# Altium schematic symbol library WE-DD.SchLib: 73 symbols (part 1 of 2)
Pins are listed as number, name and electrical type; pins without a type are passive.

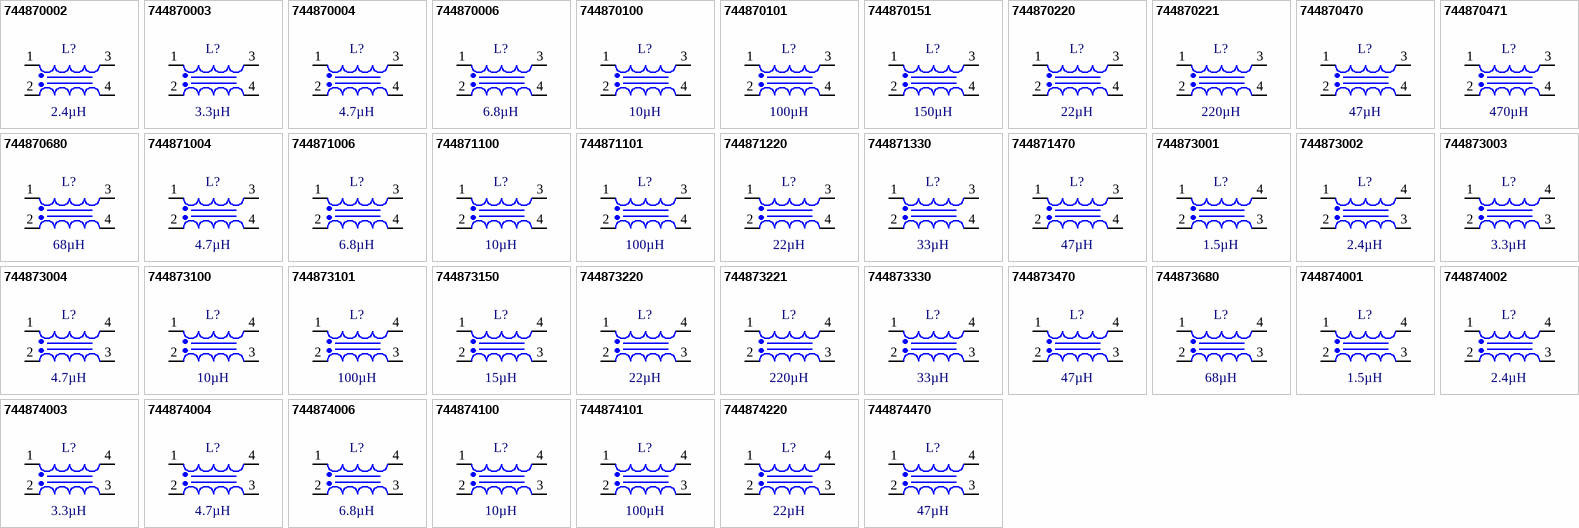
[diagram p0: symbols 744870002 to 744874470]

## 744870002
designator L?, comment 2.4µH
WE-DD SMT Shielded Coupled Inductor, size 1280, 1:1, 2.4µH, 7.8A, 18mΩ; Manufacturer Part Number: 744870002; Manufacturer: Wurth Elektronik; Case/Size Code: 1280; DC Resistance 1: 14mΩ; Rated Voltage: 80V; Saturation Current: 15A; Self Resonant Frequency: 40MHz; Type: Crossed; Category: Power Inductors; Match Code: WE-DD; ComponentLink1Description: Website Link; ComponentLink1URL: https://www.we-online.com/redexpert/article/744870002?ad; ComponentLink2Description: Datasheet Link; ComponentLink2URL: https://www.we-online.com/redexpert/spec/744870002?ad; Mount: Surface Mount; Min Operating Temperature: -40°C; Max Operating Temperature: 125°C; Packaging: Tape and Reel; Length: 12.5mm; Width: 12.5mm; Height: 8.5mm; DC Resistance 2: 14mΩ; DC Resistance Max 1: 18mΩ; DC Resistance Max 2: 18mΩ; Inductance 1: 2.4µH; Inductance 2: 2.4µH; Rated Current 1: 7.8A; Rated Current 2: 7.8A; Turns Ratio: 1:1
footprint WE-DD_1280
simulation model 1280_744870002_2.4u
pins: 1, 2, 3, 4

## 744870003
designator L?, comment 3.3µH
WE-DD SMT Shielded Coupled Inductor, size 1280, 1:1, 3.3µH, 7.1A, 21mΩ; Manufacturer Part Number: 744870003; Manufacturer: Wurth Elektronik; Case/Size Code: 1280; DC Resistance 1: 16mΩ; Rated Voltage: 80V; Saturation Current: 12A; Self Resonant Frequency: 30MHz; Type: Crossed; Category: Power Inductors; Match Code: WE-DD; ComponentLink1Description: Website Link; ComponentLink1URL: https://www.we-online.com/redexpert/article/744870003?ad; ComponentLink2Description: Datasheet Link; ComponentLink2URL: https://www.we-online.com/redexpert/spec/744870003?ad; Mount: Surface Mount; Min Operating Temperature: -40°C; Max Operating Temperature: 125°C; Packaging: Tape and Reel; Length: 12.5mm; Width: 12.5mm; Height: 8.5mm; DC Resistance 2: 16mΩ; DC Resistance Max 1: 21mΩ; DC Resistance Max 2: 21mΩ; Inductance 1: 3.3µH; Inductance 2: 3.3µH; Rated Current 1: 7.1A; Rated Current 2: 7.1A; Turns Ratio: 1:1
footprint WE-DD_1280
simulation model 1280_744870003_3.3u
pins: 1, 2, 3, 4

## 744870004
designator L?, comment 4.7µH
WE-DD SMT Shielded Coupled Inductor, size 1280, 1:1, 4.7µH, 3.6A, 30mΩ; Manufacturer Part Number: 744870004; Manufacturer: Wurth Elektronik; Case/Size Code: 1280; DC Resistance 1: 25mΩ; Rated Voltage: 80V; Saturation Current: 10A; Self Resonant Frequency: 34MHz; Type: Crossed; Category: Power Inductors; Match Code: WE-DD; ComponentLink1Description: Website Link; ComponentLink1URL: https://www.we-online.com/redexpert/article/744870004?ad; ComponentLink2Description: Datasheet Link; ComponentLink2URL: https://www.we-online.com/redexpert/spec/744870004?ad; Mount: Surface Mount; Min Operating Temperature: -40°C; Max Operating Temperature: 125°C; Packaging: Tape and Reel; Length: 12.5mm; Width: 12.5mm; Height: 8.5mm; DC Resistance 2: 25mΩ; DC Resistance Max 1: 30mΩ; DC Resistance Max 2: 30mΩ; Inductance 1: 4.7µH; Inductance 2: 4.7µH; Rated Current 1: 3.6A; Rated Current 2: 3.6A; Turns Ratio: 1:1
footprint WE-DD_1280
simulation model 1280_744870004_4.7u
pins: 1, 2, 3, 4

## 744870006
designator L?, comment 6.8µH
WE-DD SMT Shielded Coupled Inductor, size 1280, 1:1, 6.8µH, 3.2A, 35mΩ; Manufacturer Part Number: 744870006; Manufacturer: Wurth Elektronik; Case/Size Code: 1280; DC Resistance 1: 27mΩ; Rated Voltage: 80V; Saturation Current: 8A; Self Resonant Frequency: 18MHz; Type: Crossed; Category: Power Inductors; Match Code: WE-DD; ComponentLink1Description: Website Link; ComponentLink1URL: https://www.we-online.com/redexpert/article/744870006?ad; ComponentLink2Description: Datasheet Link; ComponentLink2URL: https://www.we-online.com/redexpert/spec/744870006?ad; Mount: Surface Mount; Min Operating Temperature: -40°C; Max Operating Temperature: 125°C; Packaging: Tape and Reel; Length: 12.5mm; Width: 12.5mm; Height: 8.5mm; DC Resistance 2: 27mΩ; DC Resistance Max 1: 35mΩ; DC Resistance Max 2: 35mΩ; Inductance 1: 6.8µH; Inductance 2: 6.8µH; Rated Current 1: 3.2A; Rated Current 2: 3.2A; Turns Ratio: 1:1
footprint WE-DD_1280
simulation model 1280_744870006_6.8u
pins: 1, 2, 3, 4

## 744870100
designator L?, comment 10µH
WE-DD SMT Shielded Coupled Inductor, size 1280, 1:1, 10µH, 2.7A, 44mΩ; Manufacturer Part Number: 744870100; Manufacturer: Wurth Elektronik; Case/Size Code: 1280; DC Resistance 1: 38mΩ; Rated Voltage: 80V; Saturation Current: 7A; Self Resonant Frequency: 18MHz; Type: Crossed; Category: Power Inductors; Match Code: WE-DD; ComponentLink1Description: Website Link; ComponentLink1URL: https://www.we-online.com/redexpert/article/744870100?ad; ComponentLink2Description: Datasheet Link; ComponentLink2URL: https://www.we-online.com/redexpert/spec/744870100?ad; Mount: Surface Mount; Min Operating Temperature: -40°C; Max Operating Temperature: 125°C; Packaging: Tape and Reel; Length: 12.5mm; Width: 12.5mm; Height: 8.5mm; DC Resistance 2: 38mΩ; DC Resistance Max 1: 44mΩ; DC Resistance Max 2: 44mΩ; Inductance 1: 10µH; Inductance 2: 10µH; Rated Current 1: 2.7A; Rated Current 2: 2.7A; Turns Ratio: 1:1
footprint WE-DD_1280
simulation model 1280_744870100_10u
pins: 1, 2, 3, 4

## 744870101
designator L?, comment 100µH
WE-DD SMT Shielded Coupled Inductor, size 1280, 1:1, 100µH, 1.4A, 300mΩ; Manufacturer Part Number: 744870101; Manufacturer: Wurth Elektronik; Case/Size Code: 1280; DC Resistance 1: 230mΩ; Rated Voltage: 80V; Saturation Current: 2A; Self Resonant Frequency: 4MHz; Type: Crossed; Category: Power Inductors; Match Code: WE-DD; ComponentLink1Description: Website Link; ComponentLink1URL: https://www.we-online.com/redexpert/article/744870101?ad; ComponentLink2Description: Datasheet Link; ComponentLink2URL: https://www.we-online.com/redexpert/spec/744870101?ad; Mount: Surface Mount; Min Operating Temperature: -40°C; Max Operating Temperature: 125°C; Packaging: Tape and Reel; Length: 12.5mm; Width: 12.5mm; Height: 8.5mm; DC Resistance 2: 230mΩ; DC Resistance Max 1: 300mΩ; DC Resistance Max 2: 300mΩ; Inductance 1: 100µH; Inductance 2: 100µH; Rated Current 1: 1.4A; Rated Current 2: 1.4A; Turns Ratio: 1:1
footprint WE-DD_1280
simulation model 1280_744870101_100u
pins: 1, 2, 3, 4

## 744870151
designator L?, comment 150µH
WE-DD SMT Shielded Coupled Inductor, size 1280, 1:1, 150µH, 1A, 400mΩ; Manufacturer Part Number: 744870151; Manufacturer: Wurth Elektronik; Case/Size Code: 1280; DC Resistance 1: 340mΩ; Rated Voltage: 80V; Saturation Current: 1.7A; Self Resonant Frequency: 2.3MHz; Type: Crossed; Category: Power Inductors; Match Code: WE-DD; ComponentLink1Description: Website Link; ComponentLink1URL: https://www.we-online.com/redexpert/article/744870151?ad; ComponentLink2Description: Datasheet Link; ComponentLink2URL: https://www.we-online.com/redexpert/spec/744870151?ad; Mount: Surface Mount; Min Operating Temperature: -40°C; Max Operating Temperature: 125°C; Packaging: Tape and Reel; Length: 12.5mm; Width: 12.5mm; Height: 8.5mm; DC Resistance 2: 340mΩ; DC Resistance Max 1: 400mΩ; DC Resistance Max 2: 400mΩ; Inductance 1: 150µH; Inductance 2: 150µH; Rated Current 1: 1A; Rated Current 2: 1A; Turns Ratio: 1:1
footprint WE-DD_1280
simulation model 1280_744870151_150u
pins: 1, 2, 3, 4

## 744870220
designator L?, comment 22µH
WE-DD SMT Shielded Coupled Inductor, size 1280, 1:1, 22µH, 2.45A, 80mΩ; Manufacturer Part Number: 744870220; Manufacturer: Wurth Elektronik; Case/Size Code: 1280; DC Resistance 1: 62mΩ; Rated Voltage: 80V; Saturation Current: 5.2A; Self Resonant Frequency: 10MHz; Type: Crossed; Category: Power Inductors; Match Code: WE-DD; ComponentLink1Description: Website Link; ComponentLink1URL: https://www.we-online.com/redexpert/article/744870220?ad; ComponentLink2Description: Datasheet Link; ComponentLink2URL: https://www.we-online.com/redexpert/spec/744870220?ad; Mount: Surface Mount; Min Operating Temperature: -40°C; Max Operating Temperature: 125°C; Packaging: Tape and Reel; Length: 12.5mm; Width: 12.5mm; Height: 8.5mm; DC Resistance 2: 62mΩ; DC Resistance Max 1: 80mΩ; DC Resistance Max 2: 80mΩ; Inductance 1: 22µH; Inductance 2: 22µH; Rated Current 1: 2.45A; Rated Current 2: 2.45A; Turns Ratio: 1:1
footprint WE-DD_1280
simulation model 1280_744870220_22u
pins: 1, 2, 3, 4

## 744870221
designator L?, comment 220µH
WE-DD SMT Shielded Coupled Inductor, size 1280, 1:1, 220µH, 0.9A, 650mΩ; Manufacturer Part Number: 744870221; Manufacturer: Wurth Elektronik; Case/Size Code: 1280; DC Resistance 1: 530mΩ; Rated Voltage: 80V; Saturation Current: 1.4A; Self Resonant Frequency: 2MHz; Type: Crossed; Category: Power Inductors; Match Code: WE-DD; ComponentLink1Description: Website Link; ComponentLink1URL: https://www.we-online.com/redexpert/article/744870221?ad; ComponentLink2Description: Datasheet Link; ComponentLink2URL: https://www.we-online.com/redexpert/spec/744870221?ad; Mount: Surface Mount; Min Operating Temperature: -40°C; Max Operating Temperature: 125°C; Packaging: Tape and Reel; Length: 12.5mm; Width: 12.5mm; Height: 8.5mm; DC Resistance 2: 530mΩ; DC Resistance Max 1: 650mΩ; DC Resistance Max 2: 650mΩ; Inductance 1: 220µH; Inductance 2: 220µH; Rated Current 1: 0.9A; Rated Current 2: 0.9A; Turns Ratio: 1:1
footprint WE-DD_1280
simulation model 1280_744870221_220u
pins: 1, 2, 3, 4

## 744870470
designator L?, comment 47µH
WE-DD SMT Shielded Coupled Inductor, size 1280, 1:1, 47µH, 1.45A, 150mΩ; Manufacturer Part Number: 744870470; Manufacturer: Wurth Elektronik; Case/Size Code: 1280; DC Resistance 1: 125mΩ; Rated Voltage: 80V; Saturation Current: 3.1A; Self Resonant Frequency: 5MHz; Type: Crossed; Category: Power Inductors; Match Code: WE-DD; ComponentLink1Description: Website Link; ComponentLink1URL: https://www.we-online.com/redexpert/article/744870470?ad; ComponentLink2Description: Datasheet Link; ComponentLink2URL: https://www.we-online.com/redexpert/spec/744870470?ad; Mount: Surface Mount; Min Operating Temperature: -40°C; Max Operating Temperature: 125°C; Packaging: Tape and Reel; Length: 12.5mm; Width: 12.5mm; Height: 8.5mm; DC Resistance 2: 125mΩ; DC Resistance Max 1: 150mΩ; DC Resistance Max 2: 150mΩ; Inductance 1: 47µH; Inductance 2: 47µH; Rated Current 1: 1.45A; Rated Current 2: 1.45A; Turns Ratio: 1:1
footprint WE-DD_1280
simulation model 1280_744870470_47u
pins: 1, 2, 3, 4

## 744870471
designator L?, comment 470µH
WE-DD SMT Shielded Coupled Inductor, size 1280, 1:1, 470µH, 0.7A, 1200mΩ; Manufacturer Part Number: 744870471; Manufacturer: Wurth Elektronik; Case/Size Code: 1280; DC Resistance 1: 1000mΩ; Rated Voltage: 80V; Saturation Current: 0.9A; Self Resonant Frequency: 0.65MHz; Type: Crossed; Category: Power Inductors; Match Code: WE-DD; ComponentLink1Description: Website Link; ComponentLink1URL: https://www.we-online.com/redexpert/article/744870471?ad; ComponentLink2Description: Datasheet Link; ComponentLink2URL: https://www.we-online.com/redexpert/spec/744870471?ad; Mount: Surface Mount; Min Operating Temperature: -40°C; Max Operating Temperature: 125°C; Packaging: Tape and Reel; Length: 12.5mm; Width: 12.5mm; Height: 8.5mm; DC Resistance 2: 1000mΩ; DC Resistance Max 1: 1200mΩ; DC Resistance Max 2: 1200mΩ; Inductance 1: 470µH; Inductance 2: 470µH; Rated Current 1: 0.7A; Rated Current 2: 0.7A; Turns Ratio: 1:1
footprint WE-DD_1280
simulation model 1280_744870471_470u
pins: 1, 2, 3, 4

## 744870680
designator L?, comment 68µH
WE-DD SMT Shielded Coupled Inductor, size 1280, 1:1, 68µH, 1.35A, 215mΩ; Manufacturer Part Number: 744870680; Manufacturer: Wurth Elektronik; Case/Size Code: 1280; DC Resistance 1: 170mΩ; Rated Voltage: 80V; Saturation Current: 3A; Self Resonant Frequency: 3.7MHz; Type: Crossed; Category: Power Inductors; Match Code: WE-DD; ComponentLink1Description: Website Link; ComponentLink1URL: https://www.we-online.com/redexpert/article/744870680?ad; ComponentLink2Description: Datasheet Link; ComponentLink2URL: https://www.we-online.com/redexpert/spec/744870680?ad; Mount: Surface Mount; Min Operating Temperature: -40°C; Max Operating Temperature: 125°C; Packaging: Tape and Reel; Length: 12.5mm; Width: 12.5mm; Height: 8.5mm; DC Resistance 2: 170mΩ; DC Resistance Max 1: 215mΩ; DC Resistance Max 2: 215mΩ; Inductance 1: 68µH; Inductance 2: 68µH; Rated Current 1: 1.35A; Rated Current 2: 1.35A; Turns Ratio: 1:1
footprint WE-DD_1280
simulation model 1280_744870680_68u
pins: 1, 2, 3, 4

## 744871004
designator L?, comment 4.7µH
WE-DD SMT Shielded Coupled Inductor, size 1260, 1:1, 4.7µH, 3A, 28mΩ; Manufacturer Part Number: 744871004; Manufacturer: Wurth Elektronik; Case/Size Code: 1260; DC Resistance 1: 23mΩ; Rated Voltage: 80V; Saturation Current: 8A; Self Resonant Frequency: 20MHz; Type: Crossed; Category: Power Inductors; Match Code: WE-DD; ComponentLink1Description: Website Link; ComponentLink1URL: https://www.we-online.com/redexpert/article/744871004?ad; ComponentLink2Description: Datasheet Link; ComponentLink2URL: https://www.we-online.com/redexpert/spec/744871004?ad; Mount: Surface Mount; Min Operating Temperature: -40°C; Max Operating Temperature: 125°C; Packaging: Tape and Reel; Length: 12.5mm; Width: 12.5mm; Height: 6.5mm; DC Resistance 2: 23mΩ; DC Resistance Max 1: 28mΩ; DC Resistance Max 2: 28mΩ; Inductance 1: 4.7µH; Inductance 2: 4.7µH; Rated Current 1: 3A; Rated Current 2: 3A; Turns Ratio: 1:1
footprint WE-DD_1260
simulation model 1260_744871004_4.7u
pins: 1, 2, 3, 4

## 744871006
designator L?, comment 6.8µH
WE-DD SMT Shielded Coupled Inductor, size 1260, 1:1, 6.8µH, 2.8A, 40mΩ; Manufacturer Part Number: 744871006; Manufacturer: Wurth Elektronik; Case/Size Code: 1260; DC Resistance 1: 35mΩ; Rated Voltage: 80V; Saturation Current: 6.5A; Self Resonant Frequency: 20MHz; Type: Crossed; Category: Power Inductors; Match Code: WE-DD; ComponentLink1Description: Website Link; ComponentLink1URL: https://www.we-online.com/redexpert/article/744871006?ad; ComponentLink2Description: Datasheet Link; ComponentLink2URL: https://www.we-online.com/redexpert/spec/744871006?ad; Mount: Surface Mount; Min Operating Temperature: -40°C; Max Operating Temperature: 125°C; Packaging: Tape and Reel; Length: 12.5mm; Width: 12.5mm; Height: 6.5mm; DC Resistance 2: 35mΩ; DC Resistance Max 1: 40mΩ; DC Resistance Max 2: 40mΩ; Inductance 1: 6.8µH; Inductance 2: 6.8µH; Rated Current 1: 2.8A; Rated Current 2: 2.8A; Turns Ratio: 1:1
footprint WE-DD_1260
simulation model 1260_744871006_6.8u
pins: 1, 2, 3, 4

## 744871100
designator L?, comment 10µH
WE-DD SMT Shielded Coupled Inductor, size 1260, 1:1, 10µH, 2A, 50mΩ; Manufacturer Part Number: 744871100; Manufacturer: Wurth Elektronik; Case/Size Code: 1260; DC Resistance 1: 44mΩ; Rated Voltage: 80V; Saturation Current: 5A; Self Resonant Frequency: 20MHz; Type: Crossed; Category: Power Inductors; Match Code: WE-DD; ComponentLink1Description: Website Link; ComponentLink1URL: https://www.we-online.com/redexpert/article/744871100?ad; ComponentLink2Description: Datasheet Link; ComponentLink2URL: https://www.we-online.com/redexpert/spec/744871100?ad; Mount: Surface Mount; Min Operating Temperature: -40°C; Max Operating Temperature: 125°C; Packaging: Tape and Reel; Length: 12.5mm; Width: 12.5mm; Height: 6.5mm; DC Resistance 2: 44mΩ; DC Resistance Max 1: 50mΩ; DC Resistance Max 2: 50mΩ; Inductance 1: 10µH; Inductance 2: 10µH; Rated Current 1: 2A; Rated Current 2: 2A; Turns Ratio: 1:1
footprint WE-DD_1260
simulation model 1260_744871100_10u
pins: 1, 2, 3, 4

## 744871101
designator L?, comment 100µH
WE-DD SMT Shielded Coupled Inductor, size 1260, 1:1, 100µH, 1.5A, 360mΩ; Manufacturer Part Number: 744871101; Manufacturer: Wurth Elektronik; Case/Size Code: 1260; DC Resistance 1: 293mΩ; Rated Voltage: 80V; Saturation Current: 1.8A; Self Resonant Frequency: 4MHz; Type: Crossed; Category: Power Inductors; Match Code: WE-DD; ComponentLink1Description: Website Link; ComponentLink1URL: https://www.we-online.com/redexpert/article/744871101?ad; ComponentLink2Description: Datasheet Link; ComponentLink2URL: https://www.we-online.com/redexpert/spec/744871101?ad; Mount: Surface Mount; Min Operating Temperature: -40°C; Max Operating Temperature: 125°C; Packaging: Tape and Reel; Length: 12.5mm; Width: 12.5mm; Height: 6.5mm; DC Resistance 2: 293mΩ; DC Resistance Max 1: 360mΩ; DC Resistance Max 2: 360mΩ; Inductance 1: 100µH; Inductance 2: 100µH; Rated Current 1: 1.5A; Rated Current 2: 1.5A; Turns Ratio: 1:1
footprint WE-DD_1260
simulation model 1260_744871101_100u
pins: 1, 2, 3, 4

## 744871220
designator L?, comment 22µH
WE-DD SMT Shielded Coupled Inductor, size 1260, 1:1, 22µH, 1.85A, 90mΩ; Manufacturer Part Number: 744871220; Manufacturer: Wurth Elektronik; Case/Size Code: 1260; DC Resistance 1: 67mΩ; Rated Voltage: 80V; Saturation Current: 3A; Self Resonant Frequency: 14MHz; Type: Crossed; Category: Power Inductors; Match Code: WE-DD; ComponentLink1Description: Website Link; ComponentLink1URL: https://www.we-online.com/redexpert/article/744871220?ad; ComponentLink2Description: Datasheet Link; ComponentLink2URL: https://www.we-online.com/redexpert/spec/744871220?ad; Mount: Surface Mount; Min Operating Temperature: -40°C; Max Operating Temperature: 125°C; Packaging: Tape and Reel; Length: 12.5mm; Width: 12.5mm; Height: 6.5mm; DC Resistance 2: 67mΩ; DC Resistance Max 1: 90mΩ; DC Resistance Max 2: 90mΩ; Inductance 1: 22µH; Inductance 2: 22µH; Rated Current 1: 1.85A; Rated Current 2: 1.85A; Turns Ratio: 1:1
footprint WE-DD_1260
simulation model 1260_744871220_22u
pins: 1, 2, 3, 4

## 744871330
designator L?, comment 33µH
WE-DD SMT Shielded Coupled Inductor, size 1260, 1:1, 33µH, 1.2A, 170mΩ; Manufacturer Part Number: 744871330; Manufacturer: Wurth Elektronik; Case/Size Code: 1260; DC Resistance 1: 125mΩ; Rated Voltage: 80V; Saturation Current: 2.8A; Self Resonant Frequency: 6MHz; Type: Crossed; Category: Power Inductors; Match Code: WE-DD; ComponentLink1Description: Website Link; ComponentLink1URL: https://www.we-online.com/redexpert/article/744871330?ad; ComponentLink2Description: Datasheet Link; ComponentLink2URL: https://www.we-online.com/redexpert/spec/744871330?ad; Mount: Surface Mount; Min Operating Temperature: -40°C; Max Operating Temperature: 125°C; Packaging: Tape and Reel; Length: 12.5mm; Width: 12.5mm; Height: 6.5mm; DC Resistance 2: 125mΩ; DC Resistance Max 1: 170mΩ; DC Resistance Max 2: 170mΩ; Inductance 1: 33µH; Inductance 2: 33µH; Rated Current 1: 1.2A; Rated Current 2: 1.2A; Turns Ratio: 1:1
footprint WE-DD_1260
simulation model 1260_744871330_33u
pins: 1, 2, 3, 4

## 744871470
designator L?, comment 47µH
WE-DD SMT Shielded Coupled Inductor, size 1260, 1:1, 47µH, 1.1A, 180mΩ; Manufacturer Part Number: 744871470; Manufacturer: Wurth Elektronik; Case/Size Code: 1260; DC Resistance 1: 145mΩ; Rated Voltage: 80V; Saturation Current: 2.4A; Self Resonant Frequency: 5MHz; Type: Crossed; Category: Power Inductors; Match Code: WE-DD; ComponentLink1Description: Website Link; ComponentLink1URL: https://www.we-online.com/redexpert/article/744871470?ad; ComponentLink2Description: Datasheet Link; ComponentLink2URL: https://www.we-online.com/redexpert/spec/744871470?ad; Mount: Surface Mount; Min Operating Temperature: -40°C; Max Operating Temperature: 125°C; Packaging: Tape and Reel; Length: 12.5mm; Width: 12.5mm; Height: 6.5mm; DC Resistance 2: 145mΩ; DC Resistance Max 1: 180mΩ; DC Resistance Max 2: 180mΩ; Inductance 1: 47µH; Inductance 2: 47µH; Rated Current 1: 1.1A; Rated Current 2: 1.1A; Turns Ratio: 1:1
footprint WE-DD_1260
simulation model 1260_744871470_47u
pins: 1, 2, 3, 4

## 744873001
designator L?, comment 1.5µH
WE-DD SMT Shielded Coupled Inductor, size 1280, 1:1, 1.5µH, 6.25A, 15mΩ; Manufacturer Part Number: 744873001; Manufacturer: Wurth Elektronik; Case/Size Code: 1280; DC Resistance 1: 11mΩ; Rated Voltage: 80V; Saturation Current: 18A; Self Resonant Frequency: 75MHz; Type: Straight; Category: Power Inductors; Match Code: WE-DD; ComponentLink1Description: Website Link; ComponentLink1URL: https://www.we-online.com/redexpert/article/744873001?ad; ComponentLink2Description: Datasheet Link; ComponentLink2URL: https://www.we-online.com/redexpert/spec/744873001?ad; Mount: Surface Mount; Min Operating Temperature: -40°C; Max Operating Temperature: 125°C; Packaging: Tape and Reel; Length: 12.5mm; Width: 12.5mm; Height: 8.5mm; DC Resistance 2: 11mΩ; DC Resistance Max 1: 15mΩ; DC Resistance Max 2: 15mΩ; Inductance 1: 1.5µH; Inductance 2: 1.5µH; Rated Current 1: 6.25A; Rated Current 2: 6.25A; Turns Ratio: 1:1
footprint WE-DD_1280
simulation model 1280_744873001_1.5u
pins: 1, 2, 3, 4

## 744873002
designator L?, comment 2.4µH
WE-DD SMT Shielded Coupled Inductor, size 1280, 1:1, 2.4µH, 6A, 16mΩ; Manufacturer Part Number: 744873002; Manufacturer: Wurth Elektronik; Case/Size Code: 1280; DC Resistance 1: 12mΩ; Rated Voltage: 80V; Saturation Current: 14A; Self Resonant Frequency: 54MHz; Type: Straight; Category: Power Inductors; Match Code: WE-DD; ComponentLink1Description: Website Link; ComponentLink1URL: https://www.we-online.com/redexpert/article/744873002?ad; ComponentLink2Description: Datasheet Link; ComponentLink2URL: https://www.we-online.com/redexpert/spec/744873002?ad; Mount: Surface Mount; Min Operating Temperature: -40°C; Max Operating Temperature: 125°C; Packaging: Tape and Reel; Length: 12.5mm; Width: 12.5mm; Height: 8.5mm; DC Resistance 2: 12mΩ; DC Resistance Max 1: 16mΩ; DC Resistance Max 2: 16mΩ; Inductance 1: 2.4µH; Inductance 2: 2.4µH; Rated Current 1: 6A; Rated Current 2: 6A; Turns Ratio: 1:1
footprint WE-DD_1280
simulation model 1280_744873002_2.4u
pins: 1, 2, 3, 4

## 744873003
designator L?, comment 3.3µH
WE-DD SMT Shielded Coupled Inductor, size 1280, 1:1, 3.3µH, 5.14A, 22mΩ; Manufacturer Part Number: 744873003; Manufacturer: Wurth Elektronik; Case/Size Code: 1280; DC Resistance 1: 17mΩ; Rated Voltage: 80V; Saturation Current: 11A; Self Resonant Frequency: 41MHz; Type: Straight; Category: Power Inductors; Match Code: WE-DD; ComponentLink1Description: Website Link; ComponentLink1URL: https://www.we-online.com/redexpert/article/744873003?ad; ComponentLink2Description: Datasheet Link; ComponentLink2URL: https://www.we-online.com/redexpert/spec/744873003?ad; Mount: Surface Mount; Min Operating Temperature: -40°C; Max Operating Temperature: 125°C; Packaging: Tape and Reel; Length: 12.5mm; Width: 12.5mm; Height: 8.5mm; DC Resistance 2: 17mΩ; DC Resistance Max 1: 22mΩ; DC Resistance Max 2: 22mΩ; Inductance 1: 3.3µH; Inductance 2: 3.3µH; Rated Current 1: 5.14A; Rated Current 2: 5.14A; Turns Ratio: 1:1
footprint WE-DD_1280
simulation model 1280_744873003_3.3u
pins: 1, 2, 3, 4

## 744873004
designator L?, comment 4.7µH
WE-DD SMT Shielded Coupled Inductor, size 1280, 1:1, 4.7µH, 4.87A, 24mΩ; Manufacturer Part Number: 744873004; Manufacturer: Wurth Elektronik; Case/Size Code: 1280; DC Resistance 1: 19mΩ; Rated Voltage: 80V; Saturation Current: 10A; Self Resonant Frequency: 32MHz; Type: Straight; Category: Power Inductors; Match Code: WE-DD; ComponentLink1Description: Website Link; ComponentLink1URL: https://www.we-online.com/redexpert/article/744873004?ad; ComponentLink2Description: Datasheet Link; ComponentLink2URL: https://www.we-online.com/redexpert/spec/744873004?ad; Mount: Surface Mount; Min Operating Temperature: -40°C; Max Operating Temperature: 125°C; Packaging: Tape and Reel; Length: 12.5mm; Width: 12.5mm; Height: 8.5mm; DC Resistance 2: 19mΩ; DC Resistance Max 1: 24mΩ; DC Resistance Max 2: 24mΩ; Inductance 1: 4.7µH; Inductance 2: 4.7µH; Rated Current 1: 4.87A; Rated Current 2: 4.87A; Turns Ratio: 1:1
footprint WE-DD_1280
simulation model 1280_744873004_4.7u
pins: 1, 2, 3, 4

## 744873100
designator L?, comment 10µH
WE-DD SMT Shielded Coupled Inductor, size 1280, 1:1, 10µH, 4.2A, 42mΩ; Manufacturer Part Number: 744873100; Manufacturer: Wurth Elektronik; Case/Size Code: 1280; DC Resistance 1: 31mΩ; Rated Voltage: 80V; Saturation Current: 7.5A; Self Resonant Frequency: 20MHz; Type: Straight; Category: Power Inductors; Match Code: WE-DD; ComponentLink1Description: Website Link; ComponentLink1URL: https://www.we-online.com/redexpert/article/744873100?ad; ComponentLink2Description: Datasheet Link; ComponentLink2URL: https://www.we-online.com/redexpert/spec/744873100?ad; Mount: Surface Mount; Min Operating Temperature: -40°C; Max Operating Temperature: 125°C; Packaging: Tape and Reel; Length: 12.5mm; Width: 12.5mm; Height: 8.5mm; DC Resistance 2: 31mΩ; DC Resistance Max 1: 42mΩ; DC Resistance Max 2: 42mΩ; Inductance 1: 10µH; Inductance 2: 10µH; Rated Current 1: 4.2A; Rated Current 2: 4.2A; Turns Ratio: 1:1
footprint WE-DD_1280
simulation model 1280_744873100_10u
pins: 1, 2, 3, 4

## 744873101
designator L?, comment 100µH
WE-DD SMT Shielded Coupled Inductor, size 1280, 1:1, 100µH, 1.38A, 255mΩ; Manufacturer Part Number: 744873101; Manufacturer: Wurth Elektronik; Case/Size Code: 1280; DC Resistance 1: 235mΩ; Rated Voltage: 80V; Saturation Current: 2.2A; Self Resonant Frequency: 4.4MHz; Type: Straight; Category: Power Inductors; Match Code: WE-DD; ComponentLink1Description: Website Link; ComponentLink1URL: https://www.we-online.com/redexpert/article/744873101?ad; ComponentLink2Description: Datasheet Link; ComponentLink2URL: https://www.we-online.com/redexpert/spec/744873101?ad; Mount: Surface Mount; Min Operating Temperature: -40°C; Max Operating Temperature: 125°C; Packaging: Tape and Reel; Length: 12.5mm; Width: 12.5mm; Height: 8.5mm; DC Resistance 2: 235mΩ; DC Resistance Max 1: 255mΩ; DC Resistance Max 2: 255mΩ; Inductance 1: 100µH; Inductance 2: 100µH; Rated Current 1: 1.38A; Rated Current 2: 1.38A; Turns Ratio: 1:1
footprint WE-DD_1280
simulation model 1280_744873101_100u
pins: 1, 2, 3, 4

## 744873150
designator L?, comment 15µH
WE-DD SMT Shielded Coupled Inductor, size 1280, 1:1, 15µH, 3.3A, 55mΩ; Manufacturer Part Number: 744873150; Manufacturer: Wurth Elektronik; Case/Size Code: 1280; DC Resistance 1: 41mΩ; Rated Voltage: 80V; Saturation Current: 6.1A; Self Resonant Frequency: 14MHz; Type: Straight; Category: Power Inductors; Match Code: WE-DD; ComponentLink1Description: Website Link; ComponentLink1URL: https://www.we-online.com/redexpert/article/744873150?ad; ComponentLink2Description: Datasheet Link; ComponentLink2URL: https://www.we-online.com/redexpert/spec/744873150?ad; Mount: Surface Mount; Min Operating Temperature: -40°C; Max Operating Temperature: 125°C; Packaging: Tape and Reel; Length: 12.5mm; Width: 12.5mm; Height: 8.5mm; DC Resistance 2: 41mΩ; DC Resistance Max 1: 55mΩ; DC Resistance Max 2: 55mΩ; Inductance 1: 15µH; Inductance 2: 15µH; Rated Current 1: 3.3A; Rated Current 2: 3.3A; Turns Ratio: 1:1
footprint WE-DD_1280
simulation model 1280_744873150_15u
pins: 1, 2, 3, 4

## 744873220
designator L?, comment 22µH
WE-DD SMT Shielded Coupled Inductor, size 1280, 1:1, 22µH, 2.79A, 70mΩ; Manufacturer Part Number: 744873220; Manufacturer: Wurth Elektronik; Case/Size Code: 1280; DC Resistance 1: 58mΩ; Rated Voltage: 80V; Saturation Current: 5A; Self Resonant Frequency: 11.5MHz; Type: Straight; Category: Power Inductors; Match Code: WE-DD; ComponentLink1Description: Website Link; ComponentLink1URL: https://www.we-online.com/redexpert/article/744873220?ad; ComponentLink2Description: Datasheet Link; ComponentLink2URL: https://www.we-online.com/redexpert/spec/744873220?ad; Mount: Surface Mount; Min Operating Temperature: -40°C; Max Operating Temperature: 125°C; Packaging: Tape and Reel; Length: 12.5mm; Width: 12.5mm; Height: 8.5mm; DC Resistance 2: 58mΩ; DC Resistance Max 1: 70mΩ; DC Resistance Max 2: 70mΩ; Inductance 1: 22µH; Inductance 2: 22µH; Rated Current 1: 2.79A; Rated Current 2: 2.79A; Turns Ratio: 1:1
footprint WE-DD_1280
simulation model 1280_744873220_22u
pins: 1, 2, 3, 4

## 744873221
designator L?, comment 220µH
WE-DD SMT Shielded Coupled Inductor, size 1280, 1:1, 220µH, 0.91A, 580mΩ; Manufacturer Part Number: 744873221; Manufacturer: Wurth Elektronik; Case/Size Code: 1280; DC Resistance 1: 540mΩ; Rated Voltage: 80V; Saturation Current: 1.6A; Self Resonant Frequency: 2.8MHz; Type: Straight; Category: Power Inductors; Match Code: WE-DD; ComponentLink1Description: Website Link; ComponentLink1URL: https://www.we-online.com/redexpert/article/744873221?ad; ComponentLink2Description: Datasheet Link; ComponentLink2URL: https://www.we-online.com/redexpert/spec/744873221?ad; Mount: Surface Mount; Min Operating Temperature: -40°C; Max Operating Temperature: 125°C; Packaging: Tape and Reel; Length: 12.5mm; Width: 12.5mm; Height: 8.5mm; DC Resistance 2: 540mΩ; DC Resistance Max 1: 580mΩ; DC Resistance Max 2: 580mΩ; Inductance 1: 220µH; Inductance 2: 220µH; Rated Current 1: 0.91A; Rated Current 2: 0.91A; Turns Ratio: 1:1
footprint WE-DD_1280
simulation model 1280_744873221_220u
pins: 1, 2, 3, 4

## 744873330
designator L?, comment 33µH
WE-DD SMT Shielded Coupled Inductor, size 1280, 1:1, 33µH, 2.25A, 105mΩ; Manufacturer Part Number: 744873330; Manufacturer: Wurth Elektronik; Case/Size Code: 1280; DC Resistance 1: 87mΩ; Rated Voltage: 80V; Saturation Current: 3.9A; Self Resonant Frequency: 8.9MHz; Type: Straight; Category: Power Inductors; Match Code: WE-DD; ComponentLink1Description: Website Link; ComponentLink1URL: https://www.we-online.com/redexpert/article/744873330?ad; ComponentLink2Description: Datasheet Link; ComponentLink2URL: https://www.we-online.com/redexpert/spec/744873330?ad; Mount: Surface Mount; Min Operating Temperature: -40°C; Max Operating Temperature: 125°C; Packaging: Tape and Reel; Length: 12.5mm; Width: 12.5mm; Height: 8.5mm; DC Resistance 2: 87mΩ; DC Resistance Max 1: 105mΩ; DC Resistance Max 2: 105mΩ; Inductance 1: 33µH; Inductance 2: 33µH; Rated Current 1: 2.25A; Rated Current 2: 2.25A; Turns Ratio: 1:1
footprint WE-DD_1280
simulation model 1280_744873330_33u
pins: 1, 2, 3, 4

## 744873470
designator L?, comment 47µH
WE-DD SMT Shielded Coupled Inductor, size 1280, 1:1, 47µH, 2.02A, 120mΩ; Manufacturer Part Number: 744873470; Manufacturer: Wurth Elektronik; Case/Size Code: 1280; DC Resistance 1: 110mΩ; Rated Voltage: 80V; Saturation Current: 3.1A; Self Resonant Frequency: 7.8MHz; Type: Straight; Category: Power Inductors; Match Code: WE-DD; ComponentLink1Description: Website Link; ComponentLink1URL: https://www.we-online.com/redexpert/article/744873470?ad; ComponentLink2Description: Datasheet Link; ComponentLink2URL: https://www.we-online.com/redexpert/spec/744873470?ad; Mount: Surface Mount; Min Operating Temperature: -40°C; Max Operating Temperature: 125°C; Packaging: Tape and Reel; Length: 12.5mm; Width: 12.5mm; Height: 8.5mm; DC Resistance 2: 110mΩ; DC Resistance Max 1: 120mΩ; DC Resistance Max 2: 120mΩ; Inductance 1: 47µH; Inductance 2: 47µH; Rated Current 1: 2.02A; Rated Current 2: 2.02A; Turns Ratio: 1:1
footprint WE-DD_1280
simulation model 1280_744873470_47u
pins: 1, 2, 3, 4

## 744873680
designator L?, comment 68µH
WE-DD SMT Shielded Coupled Inductor, size 1280, 1:1, 68µH, 1.66A, 180mΩ; Manufacturer Part Number: 744873680; Manufacturer: Wurth Elektronik; Case/Size Code: 1280; DC Resistance 1: 163mΩ; Rated Voltage: 80V; Saturation Current: 2.8A; Self Resonant Frequency: 5.5MHz; Type: Straight; Category: Power Inductors; Match Code: WE-DD; ComponentLink1Description: Website Link; ComponentLink1URL: https://www.we-online.com/redexpert/article/744873680?ad; ComponentLink2Description: Datasheet Link; ComponentLink2URL: https://www.we-online.com/redexpert/spec/744873680?ad; Mount: Surface Mount; Min Operating Temperature: -40°C; Max Operating Temperature: 125°C; Packaging: Tape and Reel; Length: 12.5mm; Width: 12.5mm; Height: 8.5mm; DC Resistance 2: 163mΩ; DC Resistance Max 1: 180mΩ; DC Resistance Max 2: 180mΩ; Inductance 1: 68µH; Inductance 2: 68µH; Rated Current 1: 1.66A; Rated Current 2: 1.66A; Turns Ratio: 1:1
footprint WE-DD_1280
simulation model 1280_744873680_68u
pins: 1, 2, 3, 4

## 744874001
designator L?, comment 1.5µH
WE-DD SMT Shielded Coupled Inductor, size 1260, 1:1, 1.5µH, 5.85A, 16mΩ; Manufacturer Part Number: 744874001; Manufacturer: Wurth Elektronik; Case/Size Code: 1260; DC Resistance 1: 12mΩ; Rated Voltage: 80V; Saturation Current: 14A; Self Resonant Frequency: 70MHz; Type: Straight; Category: Power Inductors; Match Code: WE-DD; ComponentLink1Description: Website Link; ComponentLink1URL: https://www.we-online.com/redexpert/article/744874001?ad; ComponentLink2Description: Datasheet Link; ComponentLink2URL: https://www.we-online.com/redexpert/spec/744874001?ad; Mount: Surface Mount; Min Operating Temperature: -40°C; Max Operating Temperature: 125°C; Packaging: Tape and Reel; Length: 12.5mm; Width: 12.5mm; Height: 6.5mm; DC Resistance 2: 12mΩ; DC Resistance Max 1: 16mΩ; DC Resistance Max 2: 16mΩ; Inductance 1: 1.5µH; Inductance 2: 1.5µH; Rated Current 1: 5.85A; Rated Current 2: 5.85A; Turns Ratio: 1:1
footprint WE-DD_1260
simulation model 1260_744874001_1.5u
pins: 1, 2, 3, 4

## 744874002
designator L?, comment 2.4µH
WE-DD SMT Shielded Coupled Inductor, size 1260, 1:1, 2.4µH, 5.5A, 17mΩ; Manufacturer Part Number: 744874002; Manufacturer: Wurth Elektronik; Case/Size Code: 1260; DC Resistance 1: 13mΩ; Rated Voltage: 80V; Saturation Current: 11.5A; Self Resonant Frequency: 54MHz; Type: Straight; Category: Power Inductors; Match Code: WE-DD; ComponentLink1Description: Website Link; ComponentLink1URL: https://www.we-online.com/redexpert/article/744874002?ad; ComponentLink2Description: Datasheet Link; ComponentLink2URL: https://www.we-online.com/redexpert/spec/744874002?ad; Mount: Surface Mount; Min Operating Temperature: -40°C; Max Operating Temperature: 125°C; Packaging: Tape and Reel; Length: 12.5mm; Width: 12.5mm; Height: 6.5mm; DC Resistance 2: 13mΩ; DC Resistance Max 1: 17mΩ; DC Resistance Max 2: 17mΩ; Inductance 1: 2.4µH; Inductance 2: 2.4µH; Rated Current 1: 5.5A; Rated Current 2: 5.5A; Turns Ratio: 1:1
footprint WE-DD_1260
simulation model 1260_744874002_2.4u
pins: 1, 2, 3, 4

## 744874003
designator L?, comment 3.3µH
WE-DD SMT Shielded Coupled Inductor, size 1260, 1:1, 3.3µH, 4.91A, 21mΩ; Manufacturer Part Number: 744874003; Manufacturer: Wurth Elektronik; Case/Size Code: 1260; DC Resistance 1: 17mΩ; Rated Voltage: 80V; Saturation Current: 8.9A; Self Resonant Frequency: 45MHz; Type: Straight; Category: Power Inductors; Match Code: WE-DD; ComponentLink1Description: Website Link; ComponentLink1URL: https://www.we-online.com/redexpert/article/744874003?ad; ComponentLink2Description: Datasheet Link; ComponentLink2URL: https://www.we-online.com/redexpert/spec/744874003?ad; Mount: Surface Mount; Min Operating Temperature: -40°C; Max Operating Temperature: 125°C; Packaging: Tape and Reel; Length: 12.5mm; Width: 12.5mm; Height: 6.5mm; DC Resistance 2: 17mΩ; DC Resistance Max 1: 21mΩ; DC Resistance Max 2: 21mΩ; Inductance 1: 3.3µH; Inductance 2: 3.3µH; Rated Current 1: 4.91A; Rated Current 2: 4.91A; Turns Ratio: 1:1
footprint WE-DD_1260
simulation model 1260_744874003_3.3u
pins: 1, 2, 3, 4

## 744874004
designator L?, comment 4.7µH
WE-DD SMT Shielded Coupled Inductor, size 1260, 1:1, 4.7µH, 4.22A, 28mΩ; Manufacturer Part Number: 744874004; Manufacturer: Wurth Elektronik; Case/Size Code: 1260; DC Resistance 1: 23mΩ; Rated Voltage: 80V; Saturation Current: 8A; Self Resonant Frequency: 39MHz; Type: Straight; Category: Power Inductors; Match Code: WE-DD; ComponentLink1Description: Website Link; ComponentLink1URL: https://www.we-online.com/redexpert/article/744874004?ad; ComponentLink2Description: Datasheet Link; ComponentLink2URL: https://www.we-online.com/redexpert/spec/744874004?ad; Mount: Surface Mount; Min Operating Temperature: -40°C; Max Operating Temperature: 125°C; Packaging: Tape and Reel; Length: 12.5mm; Width: 12.5mm; Height: 6.5mm; DC Resistance 2: 23mΩ; DC Resistance Max 1: 28mΩ; DC Resistance Max 2: 28mΩ; Inductance 1: 4.7µH; Inductance 2: 4.7µH; Rated Current 1: 4.22A; Rated Current 2: 4.22A; Turns Ratio: 1:1
footprint WE-DD_1260
simulation model 1260_744874004_4.7u
pins: 1, 2, 3, 4

## 744874006
designator L?, comment 6.8µH
WE-DD SMT Shielded Coupled Inductor, size 1260, 1:1, 6.8µH, 3.9A, 32mΩ; Manufacturer Part Number: 744874006; Manufacturer: Wurth Elektronik; Case/Size Code: 1260; DC Resistance 1: 27mΩ; Rated Voltage: 80V; Saturation Current: 6.8A; Self Resonant Frequency: 33MHz; Type: Straight; Category: Power Inductors; Match Code: WE-DD; ComponentLink1Description: Website Link; ComponentLink1URL: https://www.we-online.com/redexpert/article/744874006?ad; ComponentLink2Description: Datasheet Link; ComponentLink2URL: https://www.we-online.com/redexpert/spec/744874006?ad; Mount: Surface Mount; Min Operating Temperature: -40°C; Max Operating Temperature: 125°C; Packaging: Tape and Reel; Length: 12.5mm; Width: 12.5mm; Height: 6.5mm; DC Resistance 2: 27mΩ; DC Resistance Max 1: 32mΩ; DC Resistance Max 2: 32mΩ; Inductance 1: 6.8µH; Inductance 2: 6.8µH; Rated Current 1: 3.9A; Rated Current 2: 3.9A; Turns Ratio: 1:1
footprint WE-DD_1260
simulation model 1260_744874006_6.8u
pins: 1, 2, 3, 4

## 744874100
designator L?, comment 10µH
WE-DD SMT Shielded Coupled Inductor, size 1260, 1:1, 10µH, 3.28A, 44mΩ; Manufacturer Part Number: 744874100; Manufacturer: Wurth Elektronik; Case/Size Code: 1260; DC Resistance 1: 38mΩ; Rated Voltage: 80V; Saturation Current: 5.25A; Self Resonant Frequency: 24MHz; Type: Straight; Category: Power Inductors; Match Code: WE-DD; ComponentLink1Description: Website Link; ComponentLink1URL: https://www.we-online.com/redexpert/article/744874100?ad; ComponentLink2Description: Datasheet Link; ComponentLink2URL: https://www.we-online.com/redexpert/spec/744874100?ad; Mount: Surface Mount; Min Operating Temperature: -40°C; Max Operating Temperature: 125°C; Packaging: Tape and Reel; Length: 12.5mm; Width: 12.5mm; Height: 6.5mm; DC Resistance 2: 38mΩ; DC Resistance Max 1: 44mΩ; DC Resistance Max 2: 44mΩ; Inductance 1: 10µH; Inductance 2: 10µH; Rated Current 1: 3.28A; Rated Current 2: 3.28A; Turns Ratio: 1:1
footprint WE-DD_1260
simulation model 1260_744874100_10u
pins: 1, 2, 3, 4

## 744874101
designator L?, comment 100µH
WE-DD SMT Shielded Coupled Inductor, size 1260, 1:1, 100µH, 1.2A, 320mΩ; Manufacturer Part Number: 744874101; Manufacturer: Wurth Elektronik; Case/Size Code: 1260; DC Resistance 1: 285mΩ; Rated Voltage: 80V; Saturation Current: 1.7A; Self Resonant Frequency: 6MHz; Type: Straight; Category: Power Inductors; Match Code: WE-DD; ComponentLink1Description: Website Link; ComponentLink1URL: https://www.we-online.com/redexpert/article/744874101?ad; ComponentLink2Description: Datasheet Link; ComponentLink2URL: https://www.we-online.com/redexpert/spec/744874101?ad; Mount: Surface Mount; Min Operating Temperature: -40°C; Max Operating Temperature: 125°C; Packaging: Tape and Reel; Length: 12.5mm; Width: 12.5mm; Height: 6.5mm; DC Resistance 2: 285mΩ; DC Resistance Max 1: 320mΩ; DC Resistance Max 2: 320mΩ; Inductance 1: 100µH; Inductance 2: 100µH; Rated Current 1: 1.2A; Rated Current 2: 1.2A; Turns Ratio: 1:1
footprint WE-DD_1260
simulation model 1260_744874101_100u
pins: 1, 2, 3, 4

## 744874220
designator L?, comment 22µH
WE-DD SMT Shielded Coupled Inductor, size 1260, 1:1, 22µH, 2.47A, 80mΩ; Manufacturer Part Number: 744874220; Manufacturer: Wurth Elektronik; Case/Size Code: 1260; DC Resistance 1: 67mΩ; Rated Voltage: 80V; Saturation Current: 3.3A; Self Resonant Frequency: 15.5MHz; Type: Straight; Category: Power Inductors; Match Code: WE-DD; ComponentLink1Description: Website Link; ComponentLink1URL: https://www.we-online.com/redexpert/article/744874220?ad; ComponentLink2Description: Datasheet Link; ComponentLink2URL: https://www.we-online.com/redexpert/spec/744874220?ad; Mount: Surface Mount; Min Operating Temperature: -40°C; Max Operating Temperature: 125°C; Packaging: Tape and Reel; Length: 12.5mm; Width: 12.5mm; Height: 6.5mm; DC Resistance 2: 67mΩ; DC Resistance Max 1: 80mΩ; DC Resistance Max 2: 80mΩ; Inductance 1: 22µH; Inductance 2: 22µH; Rated Current 1: 2.47A; Rated Current 2: 2.47A; Turns Ratio: 1:1
footprint WE-DD_1260
simulation model 1260_744874220_22u
pins: 1, 2, 3, 4

## 744874470
designator L?, comment 47µH
WE-DD SMT Shielded Coupled Inductor, size 1260, 1:1, 47µH, 1.8A, 150mΩ; Manufacturer Part Number: 744874470; Manufacturer: Wurth Elektronik; Case/Size Code: 1260; DC Resistance 1: 130mΩ; Rated Voltage: 80V; Saturation Current: 2.75A; Self Resonant Frequency: 11MHz; Type: Straight; Category: Power Inductors; Match Code: WE-DD; ComponentLink1Description: Website Link; ComponentLink1URL: https://www.we-online.com/redexpert/article/744874470?ad; ComponentLink2Description: Datasheet Link; ComponentLink2URL: https://www.we-online.com/redexpert/spec/744874470?ad; Mount: Surface Mount; Min Operating Temperature: -40°C; Max Operating Temperature: 125°C; Packaging: Tape and Reel; Length: 12.5mm; Width: 12.5mm; Height: 6.5mm; DC Resistance 2: 130mΩ; DC Resistance Max 1: 150mΩ; DC Resistance Max 2: 150mΩ; Inductance 1: 47µH; Inductance 2: 47µH; Rated Current 1: 1.8A; Rated Current 2: 1.8A; Turns Ratio: 1:1
footprint WE-DD_1260
simulation model 1260_744874470_47u
pins: 1, 2, 3, 4

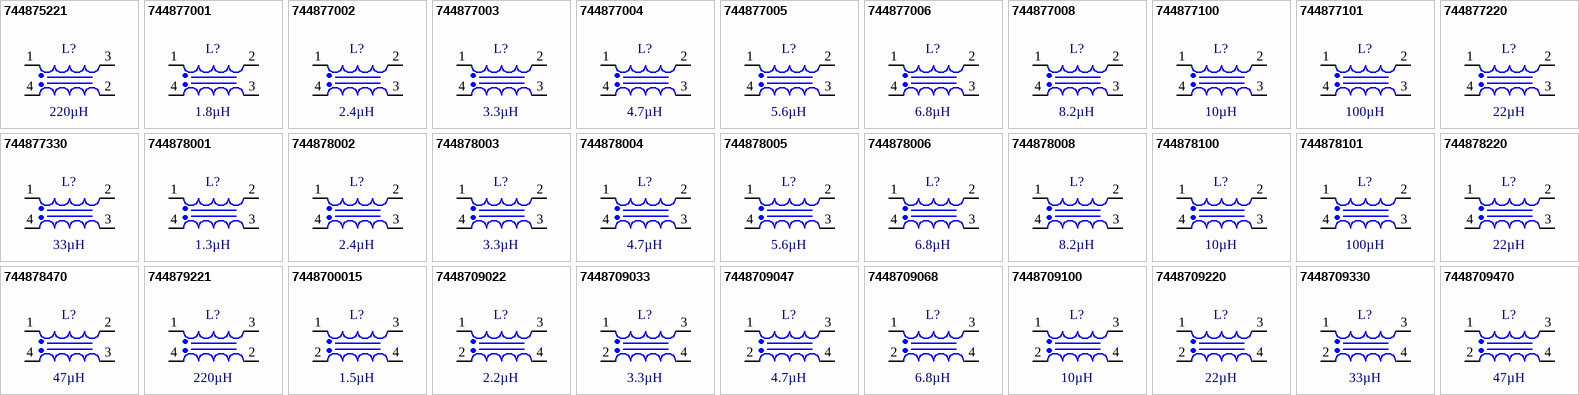
[diagram p1: symbols 744875221 to 7448709470]

## 744875221
designator L?, comment 220µH
WE-DD SMT Shielded Coupled Inductor, size 7345, 1:1, 220µH, 0.46A, 2320mΩ; Manufacturer Part Number: 744875221; Manufacturer: Wurth Elektronik; Case/Size Code: 7345; DC Resistance 1: 1940mΩ; Rated Voltage: 80V; Saturation Current: 0.58A; Self Resonant Frequency: 4.1MHz; Type: Crossed; Category: Power Inductors; Match Code: WE-DD; ComponentLink1Description: Website Link; ComponentLink1URL: https://www.we-online.com/redexpert/article/744875221?ad; ComponentLink2Description: Datasheet Link; ComponentLink2URL: https://www.we-online.com/redexpert/spec/744875221?ad; Mount: Surface Mount; Min Operating Temperature: -40°C; Max Operating Temperature: 125°C; Packaging: Tape and Reel; Length: 7.3mm; Width: 7.3mm; Height: 4.8mm; DC Resistance 2: 1940mΩ; DC Resistance Max 1: 2320mΩ; DC Resistance Max 2: 2320mΩ; Inductance 1: 220µH; Inductance 2: 220µH; Rated Current 1: 0.46A; Rated Current 2: 0.46A; Turns Ratio: 1:1
footprint WE-DD_7345
pins: 1, 2, 3, 4

## 744877001
designator L?, comment 1.8µH
WE-DD SMT Shielded Coupled Inductor, size 7345, 1:1, 1.8µH, 4.7A, 34mΩ; Manufacturer Part Number: 744877001; Manufacturer: Wurth Elektronik; Case/Size Code: 7345; DC Resistance 1: 25mΩ; Rated Voltage: 80V; Saturation Current: 6.5A; Self Resonant Frequency: 58MHz; Type: Straight; Category: Power Inductors; Match Code: WE-DD; ComponentLink1Description: Website Link; ComponentLink1URL: https://www.we-online.com/redexpert/article/744877001?ad; ComponentLink2Description: Datasheet Link; ComponentLink2URL: https://www.we-online.com/redexpert/spec/744877001?ad; Mount: Surface Mount; Min Operating Temperature: -40°C; Max Operating Temperature: 125°C; Packaging: Tape and Reel; Length: 7.3mm; Width: 7.3mm; Height: 4.8mm; DC Resistance 2: 25mΩ; DC Resistance Max 1: 34mΩ; DC Resistance Max 2: 34mΩ; Inductance 1: 1.8µH; Inductance 2: 1.8µH; Rated Current 1: 4.7A; Rated Current 2: 4.7A; Turns Ratio: 1:1
footprint WE-DD_7345
simulation model 7345_744877001_1.8u
pins: 1, 2, 3, 4

## 744877002
designator L?, comment 2.4µH
WE-DD SMT Shielded Coupled Inductor, size 7345, 1:1, 2.4µH, 4.2A, 42mΩ; Manufacturer Part Number: 744877002; Manufacturer: Wurth Elektronik; Case/Size Code: 7345; DC Resistance 1: 31mΩ; Rated Voltage: 80V; Saturation Current: 5.6A; Self Resonant Frequency: 50MHz; Type: Straight; Category: Power Inductors; Match Code: WE-DD; ComponentLink1Description: Website Link; ComponentLink1URL: https://www.we-online.com/redexpert/article/744877002?ad; ComponentLink2Description: Datasheet Link; ComponentLink2URL: https://www.we-online.com/redexpert/spec/744877002?ad; Mount: Surface Mount; Min Operating Temperature: -40°C; Max Operating Temperature: 125°C; Packaging: Tape and Reel; Length: 7.3mm; Width: 7.3mm; Height: 4.8mm; DC Resistance 2: 31mΩ; DC Resistance Max 1: 42mΩ; DC Resistance Max 2: 42mΩ; Inductance 1: 2.4µH; Inductance 2: 2.4µH; Rated Current 1: 4.2A; Rated Current 2: 4.2A; Turns Ratio: 1:1
footprint WE-DD_7345
simulation model 7345_744877002_2.4u
pins: 1, 2, 3, 4

## 744877003
designator L?, comment 3.3µH
WE-DD SMT Shielded Coupled Inductor, size 7345, 1:1, 3.3µH, 3.7A, 52mΩ; Manufacturer Part Number: 744877003; Manufacturer: Wurth Elektronik; Case/Size Code: 7345; DC Resistance 1: 40mΩ; Rated Voltage: 80V; Saturation Current: 5A; Self Resonant Frequency: 46MHz; Type: Straight; Category: Power Inductors; Match Code: WE-DD; ComponentLink1Description: Website Link; ComponentLink1URL: https://www.we-online.com/redexpert/article/744877003?ad; ComponentLink2Description: Datasheet Link; ComponentLink2URL: https://www.we-online.com/redexpert/spec/744877003?ad; Mount: Surface Mount; Min Operating Temperature: -40°C; Max Operating Temperature: 125°C; Packaging: Tape and Reel; Length: 7.3mm; Width: 7.3mm; Height: 4.8mm; DC Resistance 2: 40mΩ; DC Resistance Max 1: 52mΩ; DC Resistance Max 2: 52mΩ; Inductance 1: 3.3µH; Inductance 2: 3.3µH; Rated Current 1: 3.7A; Rated Current 2: 3.7A; Turns Ratio: 1:1
footprint WE-DD_7345
simulation model 7345_744877003_3.3u
pins: 1, 2, 3, 4

## 744877004
designator L?, comment 4.7µH
WE-DD SMT Shielded Coupled Inductor, size 7345, 1:1, 4.7µH, 2.55A, 64mΩ; Manufacturer Part Number: 744877004; Manufacturer: Wurth Elektronik; Case/Size Code: 7345; DC Resistance 1: 52mΩ; Rated Voltage: 80V; Saturation Current: 4A; Self Resonant Frequency: 42MHz; Type: Straight; Category: Power Inductors; Match Code: WE-DD; ComponentLink1Description: Website Link; ComponentLink1URL: https://www.we-online.com/redexpert/article/744877004?ad; ComponentLink2Description: Datasheet Link; ComponentLink2URL: https://www.we-online.com/redexpert/spec/744877004?ad; Mount: Surface Mount; Min Operating Temperature: -40°C; Max Operating Temperature: 125°C; Packaging: Tape and Reel; Length: 7.3mm; Width: 7.3mm; Height: 4.8mm; DC Resistance 2: 52mΩ; DC Resistance Max 1: 64mΩ; DC Resistance Max 2: 64mΩ; Inductance 1: 4.7µH; Inductance 2: 4.7µH; Rated Current 1: 2.55A; Rated Current 2: 2.55A; Turns Ratio: 1:1
footprint WE-DD_7345
simulation model 7345_744877004_4.7u
pins: 1, 2, 3, 4

## 744877005
designator L?, comment 5.6µH
WE-DD SMT Shielded Coupled Inductor, size 7345, 1:1, 5.6µH, 1.9A, 95mΩ; Manufacturer Part Number: 744877005; Manufacturer: Wurth Elektronik; Case/Size Code: 7345; DC Resistance 1: 80mΩ; Rated Voltage: 80V; Saturation Current: 3.5A; Self Resonant Frequency: 23MHz; Type: Straight; Category: Power Inductors; Match Code: WE-DD; ComponentLink1Description: Website Link; ComponentLink1URL: https://www.we-online.com/redexpert/article/744877005?ad; ComponentLink2Description: Datasheet Link; ComponentLink2URL: https://www.we-online.com/redexpert/spec/744877005?ad; Mount: Surface Mount; Min Operating Temperature: -40°C; Max Operating Temperature: 125°C; Packaging: Tape and Reel; Length: 7.3mm; Width: 7.3mm; Height: 4.8mm; DC Resistance 2: 80mΩ; DC Resistance Max 1: 95mΩ; DC Resistance Max 2: 95mΩ; Inductance 1: 5.6µH; Inductance 2: 5.6µH; Rated Current 1: 1.9A; Rated Current 2: 1.9A; Turns Ratio: 1:1
footprint WE-DD_7345
simulation model 7345_744877005_5.6u
pins: 1, 2, 3, 4

## 744877006
designator L?, comment 6.8µH
WE-DD SMT Shielded Coupled Inductor, size 7345, 1:1, 6.8µH, 1.8A, 102mΩ; Manufacturer Part Number: 744877006; Manufacturer: Wurth Elektronik; Case/Size Code: 7345; DC Resistance 1: 85mΩ; Rated Voltage: 80V; Saturation Current: 3.2A; Self Resonant Frequency: 20MHz; Type: Straight; Category: Power Inductors; Match Code: WE-DD; ComponentLink1Description: Website Link; ComponentLink1URL: https://www.we-online.com/redexpert/article/744877006?ad; ComponentLink2Description: Datasheet Link; ComponentLink2URL: https://www.we-online.com/redexpert/spec/744877006?ad; Mount: Surface Mount; Min Operating Temperature: -40°C; Max Operating Temperature: 125°C; Packaging: Tape and Reel; Length: 7.3mm; Width: 7.3mm; Height: 4.8mm; DC Resistance 2: 85mΩ; DC Resistance Max 1: 102mΩ; DC Resistance Max 2: 102mΩ; Inductance 1: 6.8µH; Inductance 2: 6.8µH; Rated Current 1: 1.8A; Rated Current 2: 1.8A; Turns Ratio: 1:1
footprint WE-DD_7345
simulation model 7345_744877006_6.8u
pins: 1, 2, 3, 4

## 744877008
designator L?, comment 8.2µH
WE-DD SMT Shielded Coupled Inductor, size 7345, 1:1, 8.2µH, 1.7A, 110mΩ; Manufacturer Part Number: 744877008; Manufacturer: Wurth Elektronik; Case/Size Code: 7345; DC Resistance 1: 91mΩ; Rated Voltage: 80V; Saturation Current: 2.9A; Self Resonant Frequency: 17MHz; Type: Straight; Category: Power Inductors; Match Code: WE-DD; ComponentLink1Description: Website Link; ComponentLink1URL: https://www.we-online.com/redexpert/article/744877008?ad; ComponentLink2Description: Datasheet Link; ComponentLink2URL: https://www.we-online.com/redexpert/spec/744877008?ad; Mount: Surface Mount; Min Operating Temperature: -40°C; Max Operating Temperature: 125°C; Packaging: Tape and Reel; Length: 7.3mm; Width: 7.3mm; Height: 4.8mm; DC Resistance 2: 91mΩ; DC Resistance Max 1: 110mΩ; DC Resistance Max 2: 110mΩ; Inductance 1: 8.2µH; Inductance 2: 8.2µH; Rated Current 1: 1.7A; Rated Current 2: 1.7A; Turns Ratio: 1:1
footprint WE-DD_7345
simulation model 7345_744877008_8.2u
pins: 1, 2, 3, 4